# EAGLE library part UV5R (library UV5RAdaptor)
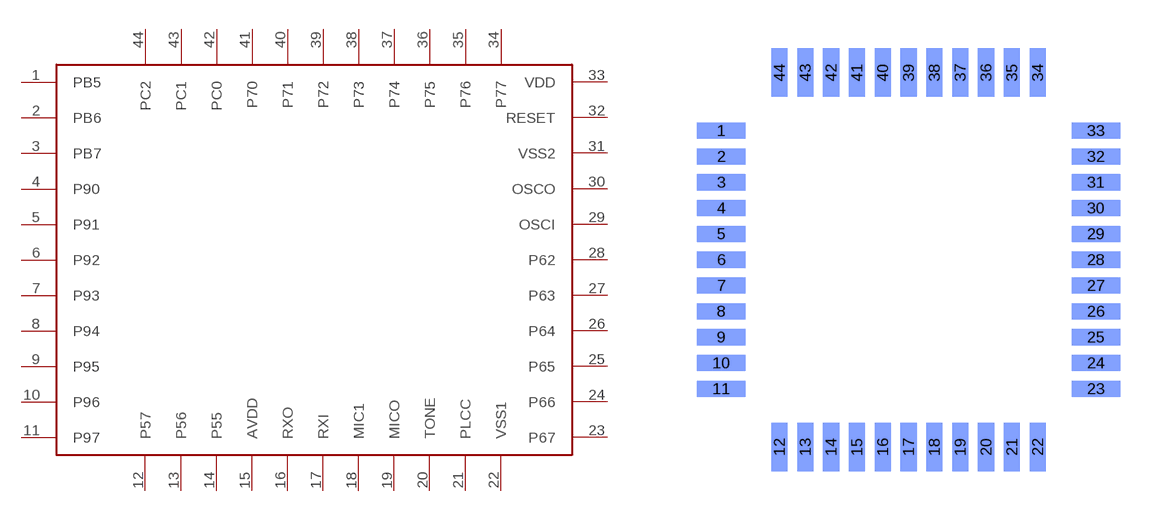
[diagram p1: symbol with the pads of TQFP44; footprint TQFP44]

Designator prefix -

## UV5R  [TQFP44]
1  PB5
2  PB6
3  PB7
4  P90
5  P91
6  P92
7  P93
8  P94
9  P95
10  P96
11  P97
12  P57
13  P56
14  P55
15  AVDD
16  RXO
17  RXI
18  MIC1
19  MICO
20  TONE
21  PLCC
22  VSS1
23  P67
24  P66
25  P65
26  P64
27  P63
28  P62
29  OSCI
30  OSCO
31  VSS2
32  RESET
33  VDD
34  P77
35  P76
36  P75
37  P74
38  P73
39  P72
40  P71
41  P70
42  PC0
43  PC1
44  PC2

## Footprint TQFP44 (pad centres in mm)
smd 1.5 x 0.5 bottom: 1 -5.8,4; 2 -5.8,3.2; 3 -5.8,2.4; 4 -5.8,1.6; 5 -5.8,0.8; 6 -5.8,0; 7 -5.8,-0.8; 8 -5.8,-1.6; 9 -5.8,-2.4; 10 -5.8,-3.2; 11 -5.8,-4; 23 5.8,-4; 24 5.8,-3.2; 25 5.8,-2.4; 26 5.8,-1.6; 27 5.8,-0.8; 28 5.8,0; 29 5.8,0.8; 30 5.8,1.6; 31 5.8,2.4; 32 5.8,3.2; 33 5.8,4
smd 0.5 x 1.5 bottom: 12 -4,-5.8; 13 -3.2,-5.8; 14 -2.4,-5.8; 15 -1.6,-5.8; 16 -0.8,-5.8; 17 0,-5.8; 18 0.8,-5.8; 19 1.6,-5.8; 20 2.4,-5.8; 21 3.2,-5.8; 22 4,-5.8; 34 4,5.8; 35 3.2,5.8; 36 2.4,5.8; 37 1.6,5.8; 38 0.8,5.8; 39 0,5.8; 40 -0.8,5.8; 41 -1.6,5.8; 42 -2.4,5.8; 43 -3.2,5.8; 44 -4,5.8